# Altium schematic symbol library 3x3_mm.SchLib: 1 symbol
Pins are listed as number, name and electrical type; pins without a type are passive.

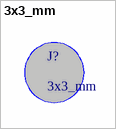
[diagram p0: symbol 3x3_mm]

## 3x3_mm
designator J?
footprint 3x3_mm